# Altium schematic symbol library 36783-1201.SchLib: 1 symbol
Pins are listed as number, name and electrical type; pins without a type are passive.

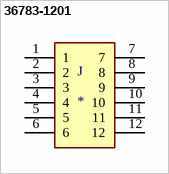
[diagram p0: symbol 36783-1201]

## 36783-1201
designator J
Connector Header Panel Mount, Through Hole, Right Angle 12 position 0.126 _3.20mm_; MF: Molex; MP: 36783-1201; Price: None; Package: None; Value: *; SnapEDA_Link: https://www.snapeda.com/parts/36783-1201/Molex/view-part/514137/?ref=snap; Availability: Unavailable
footprint MOLEX_36783-1201
pins: 1, 2, 3, 4, 5, 6, 7, 8, 9, 10, 11, 12